# Altium footprint library NEO-M8.PcbLib: 1 footprints
Each footprint in its own frame and in the unit in brackets; x right, y up, seen from the top. Pads: shape width x height; smd on the part's side, far side on the other; paste and mask are expansions set on the pad; w line width, h text height; cw(c..) or ccw(c..) is an arc to the next point about the centre after c.
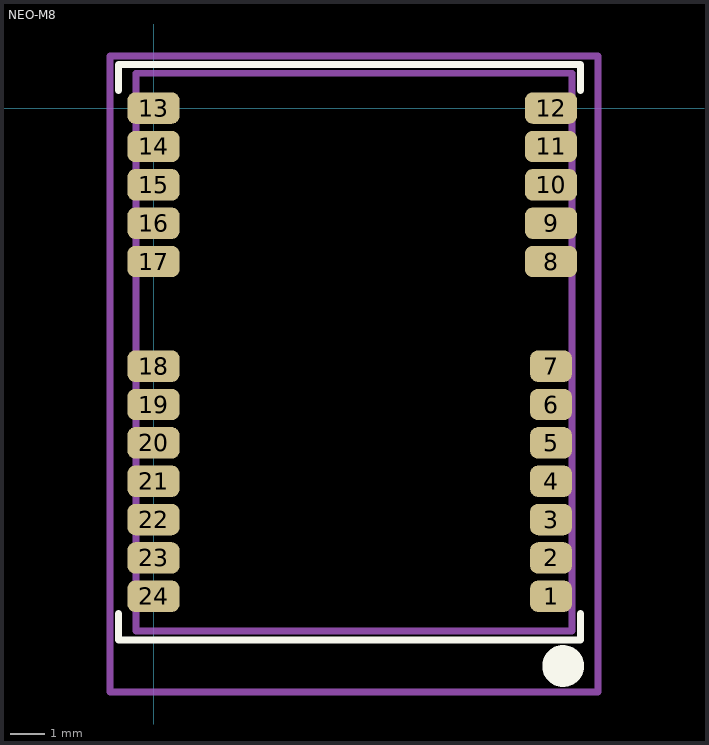
[diagram p0: the footprint, top view; thin cyan lines are the x and y axes]

## NEO-M8 [mm]
pads (24):
  rrect50% 1.2x0.9 smd mask+0.05: 1(11.4,-14) 2(11.4,-12.9) 3(11.4,-11.8) 4(11.4,-10.7) 5(11.4,-9.6) 6(11.4,-8.5) 7(11.4,-7.4)
  rrect50% 1.5x0.9 smd mask+0.05: 8(11.4,-4.4) 9(11.4,-3.3) 10(11.4,-2.2) 11(11.4,-1.1) 12(11.4,0) 13(0,0) 14(0,-1.1) 15(0,-2.2) 16(0,-3.3) 17(0,-4.4) 18(0,-7.4) 19(0,-8.5) 20(0,-9.6) 21(0,-10.7) 22(0,-11.8) 23(0,-12.9) 24(0,-14)
Top Overlay:
  circle w0.6: c11.75,-16 r0.3
  lines w0.2: -1,-14.5 -1,-15.25 12.25,-15.25 12.25,-14.5 ; -1,0.5 -1,1.25 12.25,1.25 12.25,0.5
Top Assembly:
  lines w0.2: -0.5,-15 -0.5,1 12,1 12,-15 -0.5,-15
Top Courtyard:
  lines w0.2: -1.25,-16.75 12.75,-16.75 12.75,1.5 -1.25,1.5 -1.25,-16.75
3D body "User Library-neo-m8n.step": height 2.4, standoff 0, extent -0.4,-15.025 11.8,0.975